# EAGLE library part MCP2210 (library Strutz Electronic Industries)
The USB to SPI bridge from Microchip Acts as SPI Master Also comes in SOIC-20 packages
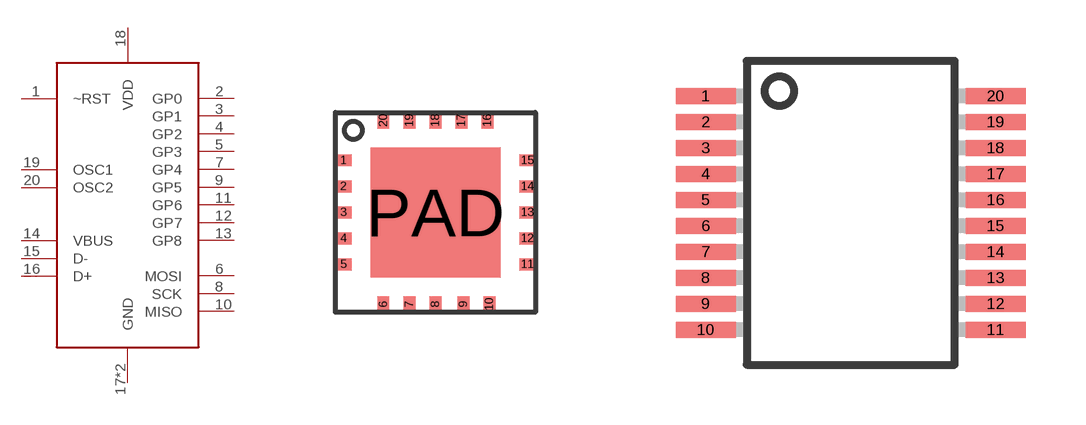
[diagram p36: symbol with the pads of 20-QFN(5X5); footprints 20-QFN(5X5), 20-SSOP]

Designator prefix -

## MCP2210QFN  [20-QFN(5X5)]
1  ~RST
2  GP0
3  GP1
4  GP2
5  GP3
6  MOSI
7  GP4
8  SCK
9  GP5
10  MISO
11  GP6
12  GP7
13  GP8
14  VBUS
15  D-
16  D+
17  GND
18  VDD
19  OSC1
20  OSC2
PAD  GND

## MCP2210SSOP  [20-SSOP]
1  VDD
2  OSC1
3  OSC2
4  ~RST
5  GP0
6  GP1
7  GP2
8  GP3
9  MOSI
10  GP4
11  SCK
12  GP5
13  MISO
14  GP6
15  GP7
16  GP8
17  VBUS
18  D-
19  D+
20  GND

## Footprint 20-QFN(5X5) (pad centres in mm)
smd 0.4 x 0.3: 1 -2.3,1.3; 2 -2.3,0.65; 3 -2.3,0; 4 -2.3,-0.65; 5 -2.3,-1.3; 11 2.3,-1.3; 12 2.3,-0.65; 13 2.3,0; 14 2.3,0.65; 15 2.3,1.3
smd 0.3 x 0.4: 6 -1.3,-2.3; 7 -0.65,-2.3; 8 0,-2.3; 9 0.7,-2.3; 10 1.35,-2.3; 16 1.3,2.3; 17 0.65,2.3; 18 0,2.3; 19 -0.65,2.3; 20 -1.3,2.3
smd 3.25 x 3.25: PAD 0,0

## Footprint 20-SSOP (pad centres in mm)
smd 1.5 x 0.4: 1 -3.625,2.925; 2 -3.625,2.275; 3 -3.625,1.625; 4 -3.625,0.975; 5 -3.625,0.325; 6 -3.625,-0.325; 7 -3.625,-0.975; 8 -3.625,-1.625; 9 -3.625,-2.275; 10 -3.625,-2.925; 11 3.625,-2.925; 12 3.625,-2.275; 13 3.625,-1.625; 14 3.625,-0.975; 15 3.625,-0.325; 16 3.625,0.325; 17 3.625,0.975; 18 3.625,1.625; 19 3.625,2.275; 20 3.625,2.925